# EAGLE library part ATZB-24 (library Atmel-zigbit)
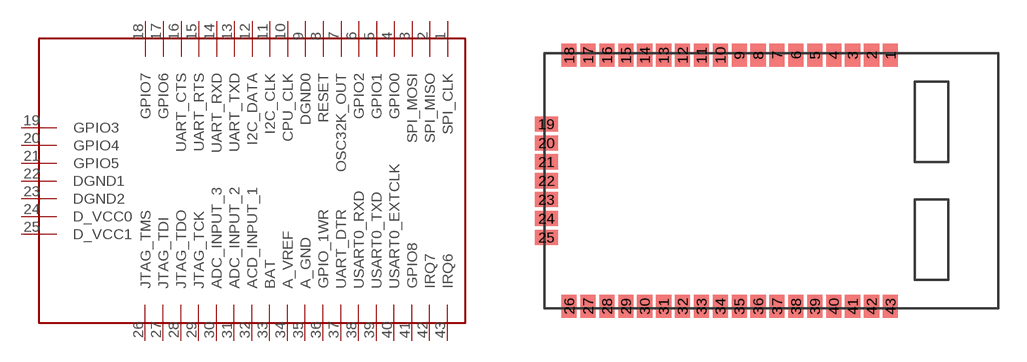
[diagram p0: symbol with the pads of ATZB-24-A2; footprint ATZB-24-A2]

Designator prefix -

## ATZB-24  [ATZB-24-A2]
1  SPI_CLK
2  SPI_MISO
3  SPI_MOSI
4  GPIO0
5  GPIO1
6  GPIO2
7  OSC32K_OUT
8  RESET
9  DGND0
10  CPU_CLK
11  I2C_CLK
12  I2C_DATA
13  UART_TXD
14  UART_RXD
15  UART_RTS
16  UART_CTS
17  GPIO6
18  GPIO7
19  GPIO3
20  GPIO4
21  GPIO5
22  DGND1
23  DGND2
24  D_VCC0
25  D_VCC1
26  JTAG_TMS
27  JTAG_TDI
28  JTAG_TDO
29  JTAG_TCK
30  ADC_INPUT_3
31  ADC_INPUT_2
32  ACD_INPUT_1
33  BAT
34  A_VREF
35  A_GND
36  GPIO_1WR
37  UART_DTR
38  USART0_RXD
39  USART0_TXD
40  USART0_EXTCLK
41  GPIO8
42  IRQ7
43  IRQ6

## Footprint ATZB-24-A2 (pad centres in mm)
smd 0.8 x 1.2: 1 8.45,6.65; 2 7.45,6.65; 3 6.45,6.65; 4 5.45,6.65; 5 4.45,6.65; 6 3.45,6.65; 7 2.45,6.65; 8 1.45,6.65; 9 0.45,6.65; 10 -0.55,6.65; 11 -1.55,6.65; 12 -2.55,6.65; 13 -3.55,6.65; 14 -4.55,6.65; 15 -5.55,6.65; 16 -6.55,6.65; 17 -7.55,6.65; 18 -8.55,6.65; 26 -8.55,-6.65; 27 -7.55,-6.65; 28 -6.55,-6.65; 29 -5.55,-6.65; 30 -4.55,-6.65; 31 -3.55,-6.65; 32 -2.55,-6.65; 33 -1.55,-6.65; 34 -0.55,-6.65; 35 0.45,-6.65; 36 1.45,-6.65; 37 2.45,-6.65; 38 3.45,-6.65; 39 4.45,-6.65; 40 5.45,-6.65; 41 6.45,-6.65; 42 7.45,-6.65; 43 8.45,-6.65
smd 1.2 x 0.8: 19 -9.75,3; 20 -9.75,2; 21 -9.75,1; 22 -9.75,0; 23 -9.75,-1; 24 -9.75,-2; 25 -9.75,-3